# EAGLE library part M05X2 (library work)
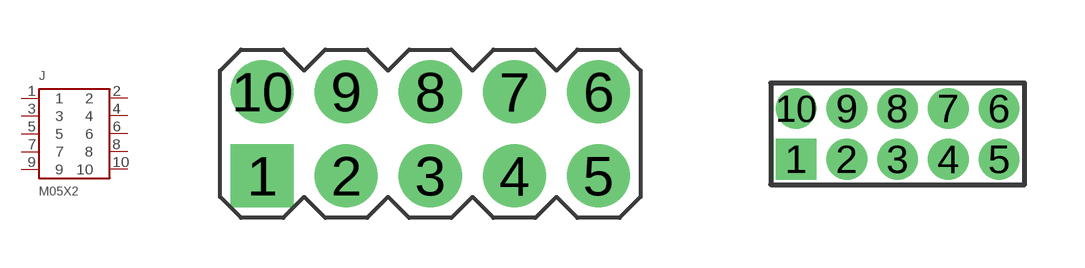
[diagram p14: symbol with the pads of M05X2; footprints M05X2, M05X2-50MIL]

Designator prefix J

## M05X2-100MIL  [M05X2]
1  1
2  2
3  3
4  4
5  5
6  6
7  7
8  8
9  9
10  10

## M05X2-50MIL  [M05X2-50MIL]
Pads as for M05X2

## M05X2-100MIL-SHROUDED  [M05X2_SHROUD]
1  1
2  10
3  2
4  9
5  3
6  8
7  4
8  7
9  5
10  6

## Footprint M05X2 (pad centres in mm)
drill 1.016 pad 1.905 square: 1 -5.08,-1.27
drill 1.016 pad 1.905: 2 -2.54,-1.27; 3 0,-1.27; 4 2.54,-1.27; 5 5.08,-1.27; 6 5.08,1.27; 7 2.54,1.27; 8 0,1.27; 9 -2.54,1.27; 10 -5.08,1.27

## Footprint M05X2-50MIL (pad centres in mm)
drill 0.508 pad 0.914 square: 1 -2.54,-0.635
drill 0.508 pad 0.914: 2 -1.27,-0.635; 3 0,-0.635; 4 1.27,-0.635; 5 2.54,-0.635; 6 2.54,0.635; 7 1.27,0.635; 8 0,0.635; 9 -1.27,0.635; 10 -2.54,0.635

## Footprint M05X2_SHROUD (pad centres in mm)
drill 1.016 pad 1.88 square: 1 -5.08,-1.27
drill 1.016 pad 1.88: 2 -5.08,1.27; 3 -2.54,-1.27; 4 -2.54,1.27; 5 0,-1.27; 6 0,1.27; 7 2.54,-1.27; 8 2.54,1.27; 9 5.08,-1.27; 10 5.08,1.27